# EAGLE library part 691312510023 (library Wurth_Elektronik_Electromechanic_Terminal_Blocks_Connectors_rev16b)
WR-TBL Serie 312 - 5.08 mm Open Horizontal PCB Header , 23 Pins=>Code : Con_TBL_Pluggable_5.08_PCB_THT_Simple_H_691312510023 <http://katalog.we-online.de/media/images/eican/Con_TBL_Pluggable_5.08_PCB_THT_Simple_H_6913125100xx_pf2.jpg> Details see: http://katalog.we-online.de/en/em/691_312_510_0xx Created 2014-06-25, Karrer Zheng 2014 (C) Würth Elektronik
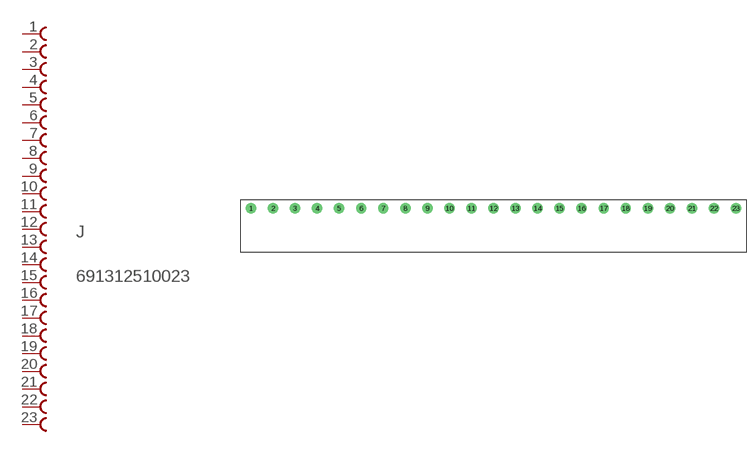
[diagram p147: symbol with the pads of 691312510023; footprint 691312510023]

Designator prefix J

## 691312510023  [691312510023]
1  1  pas
2  2  pas
3  3  pas
4  4  pas
5  5  pas
6  6  pas
7  7  pas
8  8  pas
9  9  pas
10  10  pas
11  11  pas
12  12  pas
13  13  pas
14  14  pas
15  15  pas
16  16  pas
17  17  pas
18  18  pas
19  19  pas
20  20  pas
21  21  pas
22  22  pas
23  23  pas

## Footprint 691312510023 (pad centres in mm)
WR-TBL Serie 312 - 5.08 mm Open Horizontal PCB Header , 23 Pins
drill 1.6: 1 -55.88,0; 2 -50.8,0; 3 -45.72,0; 4 -40.64,0; 5 -35.56,0; 6 -30.48,0; 7 -25.4,0; 8 -20.32,0; 9 -15.24,0; 10 -10.16,0; 11 -5.08,0; 12 0,0; 13 5.08,0; 14 10.16,0; 15 15.24,0; 16 20.32,0; 17 25.4,0; 18 30.48,0; 19 35.56,0; 20 40.64,0; 21 45.72,0; 22 50.8,0; 23 55.88,0